# Altium footprint library RF_Mini-Circuits.PcbLib: 31 footprints (part 2 of 2)
Each footprint in its own frame and in the unit in brackets; x right, y up, seen from the top. Pads: shape width x height; smd on the part's side, far side on the other; paste and mask are expansions set on the pad; w line width, h text height; cw(c..) or ccw(c..) is an arc to the next point about the centre after c.
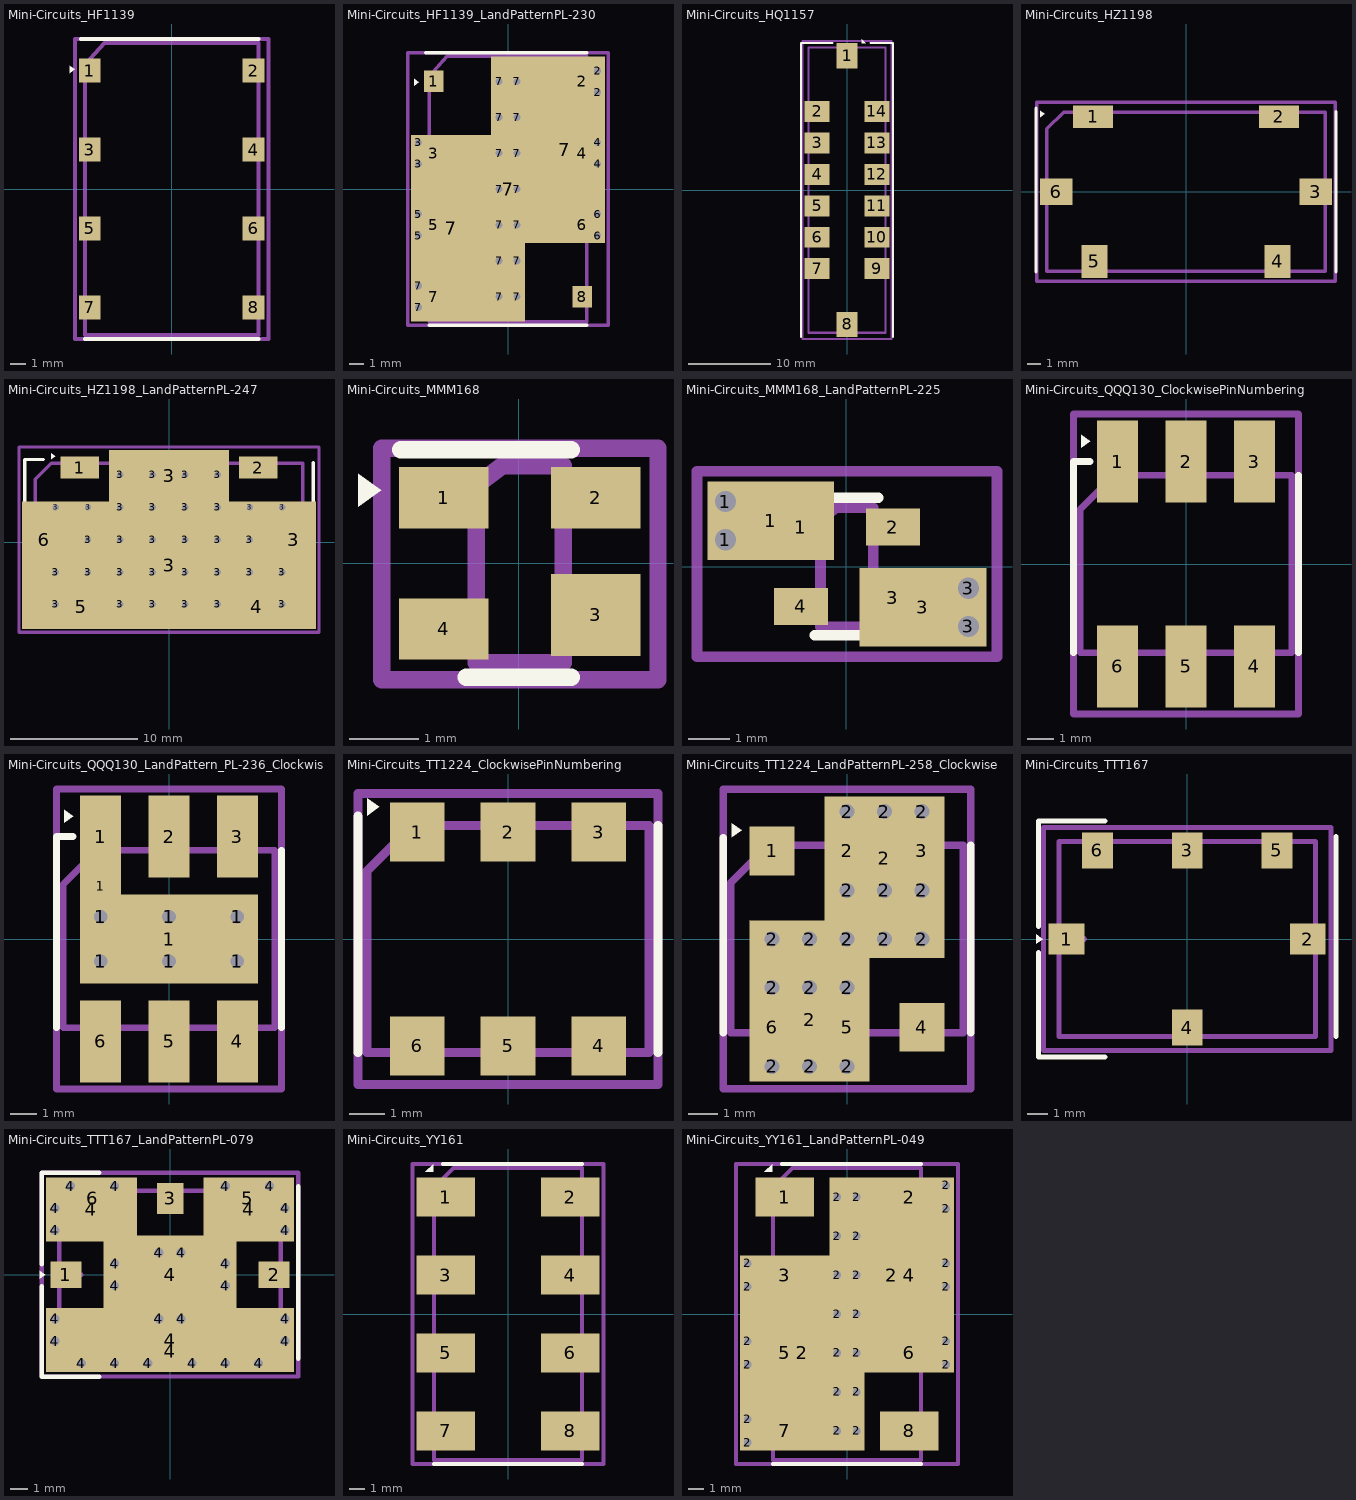
[diagram p1: the footprints below, top view; thin cyan lines are the x and y axes]

## Mini-Circuits_HF1139 [mil]
pads (8):
  rect 55x60 smd: 1(-207.5,300) 2(207.5,300) 3(-207.5,100) 4(207.5,100) 5(-207.5,-100) 6(207.5,-100) 7(-207.5,-300) 8(207.5,-300)
F.SilkS:
  region: -245.28,302.76 -258.5,293.31 -258.5,312.2
  lines w10: -230,380 220,380 ; -220,-380 220,-380
F.Fab:
  lines w10: -220,-370 -220,315 -170,370 220,370 220,-370 -220,-370
  text "'.Designator'" at -166.82,-33.08 h39.37
F.CrtYd:
  lines w10: -244.88,-379.92 -244.88,379.92 244.88,379.92 244.88,-379.92 -244.88,-379.92

## Mini-Circuits_HF1139_LandPatternPL-230 [mil]
pads (37):
  rect 55x60 smd: 1(-207.5,300) 2(207.5,300) 3(-207.5,100) 4(207.5,100) 5(-207.5,-100) 6(207.5,-100) 7(-207.5,-300) 8(207.5,-300)
  round 40 hole 20: 2(250,270) 2(250,330) 3(-250,70) 3(-250,130) 4(250,70) 4(250,130) 5(-250,-130) 5(-250,-70) 6(250,-130) 6(250,-70) 7(-250,-330) 7(-250,-270) 7(-25,-300) 7(-25,-200) 7(-25,-100) 7(-25,0) 7(-25,100) 7(-25,200) 7(-25,300) 7(25,-300) 7(25,-200) 7(25,-100) 7(25,0) 7(25,100) 7(25,200) 7(25,300)
  rect 223x520 smd: 7(-158.5,-110) 7(158.5,110)
  rect 94x740 smd: 7(0,0)
F.SilkS:
  region: -248.43,298.03 -261.65,288.58 -261.65,307.48
  lines w10: -230,380 220,380 ; -220,-380 220,-380
F.Fab:
  lines w10: -220,-370 -220,315 -170,370 220,370 220,-370 -220,-370
  text "'.Designator'" at -166.82,-33.08 h39.37
F.CrtYd:
  lines w10: -279.92,-379.92 -279.92,379.92 279.92,379.92 279.92,-379.92 -279.92,-379.92

## Mini-Circuits_HQ1157 [mil]
pads (14):
  rect 100x120 smd: 1(0,640) 8(0,-640)
  rect 120x100 smd: 2(-142.5,375) 3(-142.5,225) 4(-142.5,75) 5(-142.5,-75) 6(-142.5,-225) 7(-142.5,-375) 9(142.5,-375) 10(142.5,-225) 11(142.5,-75) 12(142.5,75) 13(142.5,225) 14(142.5,375)
F.SilkS:
  region: 89.69,700 70,700 70,719.68
  lines w10: -220,-700 -220,700 -70,700 ; 111.02,700.39 220,700 220,-700
F.Fab:
  lines w10: -182.5,-680 -182.5,680 182.5,680 182.5,-680 -182.5,-680
  text "'.Designator'" at 25.21,-159.32 h39.37
F.CrtYd:
  lines w10: -212.2,-709.84 -212.2,709.84 212.2,709.84 212.2,-709.84 -212.2,-709.84

## Mini-Circuits_HZ1198 [mil]
pads (6):
  rect 118x67 smd: 1(-275.5,222.5) 2(275.5,222.5)
  rect 96x78 smd: 3(385,0) 6(-385,0)
  rect 78x98 smd: 4(271.5,-207) 5(-271.5,-207)
F.SilkS:
  region: -419.69,230.71 -432.91,221.26 -432.91,240.16
  lines w10: -445,-238 -445,247 ; 445,-238 445,237
F.Fab:
  lines w10: -413,-236 -413,186 -363,236 413,236 413,-236 -413,-236
  text "'.Designator'" at -159.32,-40.96 h39.37
F.CrtYd:
  lines w10: -442.91,-265.75 -442.91,265.75 442.91,265.75 442.91,-265.75 -442.91,-265.75

## Mini-Circuits_HZ1198_LandPatternPL-247 [mil]
pads (40):
  rect 118x67 smd: 1(-275.5,230.5) 2(275.5,230.5)
  round 40 hole 20: 3(-350,-192) 3(-350,-92) 3(-250,-92) 3(-250,8) 3(-150,-192) 3(-150,-92) 3(-150,8) 3(-150,108) 3(-150,208) 3(-50,-192) 3(-50,-92) 3(-50,8) 3(-50,108) 3(-50,208) 3(50,-192) 3(50,-92) 3(50,8) 3(50,108) 3(50,208) 3(150,-192) 3(150,-92) 3(150,8) 3(150,108) 3(150,208) 3(250,-92) 3(250,8) 3(350,-192) 3(350,-92)
  round 30 hole 20: 3(-350,108) 3(-250,108) 3(250,108) 3(350,108)
  rect 906x394 smd: 3(0,-71)
  rect 369x160 smd: 3(0,205)
  rect 96x78 smd: 3(385,8) 6(-385,8)
  rect 78x98 smd: 4(271.5,-199) 5(-271.5,-199)
F.SilkS:
  region: -350.39,265.75 -363.62,256.3 -363.62,275.2
  lines w10: -445,-230 -445,255 -387.4,255 ; 445,-230 445,245
F.Fab:
  lines w10: -413,-228 -413,194 -363,244 413,244 413,-228 -413,-228
  text "'.Designator'" at -159.32,-32.96 h39.37
F.CrtYd:
  lines w10: -462.99,-277.95 -462.99,293.7 462.99,293.7 462.99,-277.95 -462.99,-277.95

## Mini-Circuits_MMM168 [mil]
pads (4):
  rect 51x35 smd: 1(-43,37.5) 2(44,37.5) 4(-43,-37.5)
  rect 51x47 smd: 3(44,-29.5)
F.SilkS:
  region: -78.74,41.73 -91.97,32.28 -91.97,51.18
  lines w10: -67.5,65 30,65 ; -30,-65 30,-65
F.Fab:
  lines w10: -24.5,-56.75 -24.5,44.5 -9.5,55.75 25.5,55.75 25.5,-56.75 -24.5,-56.75
  text "'.Designator'" at -158.82,-33.58 h39.37
F.CrtYd:
  lines w10: -78.35,-66.54 -78.35,65.75 79.53,65.75 79.53,-66.54 -78.35,-66.54

## Mini-Circuits_MMM168_LandPatternPL-225 [mil]
pads (10):
  round 31.81 hole 20: 1(-114.5,25.5) 1(-114.5,61.5) 3(115.5,-56.5) 3(115.5,-20.5)
  rect 120x74 smd: 1(-71.5,43.5) 3(72.5,-38.5)
  rect 51x35 smd: 1(-43,37.5) 2(44,37.5) 4(-43,-37.5)
  rect 51x47 smd: 3(44,-29.5)
F.SilkS:
  region: -78.74,40.16 -91.97,30.71 -91.97,49.61
  lines w10: -90,65 30,65 ; -30,-65 30,-65
F.Fab:
  lines w10: -24.5,-56.75 -24.5,44.5 -9.5,55.75 25.5,55.75 25.5,-56.75 -24.5,-56.75
  text "'.Designator'" at -158.82,-33.58 h39.37
F.CrtYd:
  lines w10: -141.34,-85.43 -141.34,90.16 142.52,90.16 142.52,-85.43 -141.34,-85.43

## Mini-Circuits_QQQ130_ClockwisePinNumbering [mil]
pads (6):
  rect 60x120 smd: 1(-100,150) 2(0,150) 3(100,150) 4(100,-150) 5(0,-150) 6(-100,-150)
F.SilkS:
  region: -140.55,180 -153.78,170.55 -153.78,189.45
  lines w10: -165,-130 -165,150 -140.55,150 ; 165,-130 165,130
F.Fab:
  lines w10: -155,-130 -155,80 -105,130 155,130 155,-130 -155,-130
  text "'.Designator'" at -159.32,-33.08 h39.37
F.CrtYd:
  lines w10: -164.96,-219.69 -164.96,219.69 164.96,219.69 164.96,-219.69 -164.96,-219.69

## Mini-Circuits_QQQ130_LandPattern_PL-236_ClockwisePinNumbering [mil]
pads (14):
  round 40 hole 20: 1(-100,-32.5) 1(-100,32.5) 1(0,-32.5) 1(0,32.5) 1(100,-32.5) 1(100,32.5)
  rect 60x25 smd: 1(-100,77.5)
  rect 60x120 smd: 1(-100,150) 2(0,150) 3(100,150) 4(100,-150) 5(0,-150) 6(-100,-150)
  rect 260x131 smd: 1(0,0)
F.SilkS:
  region: -140.55,180 -153.78,170.55 -153.78,189.45
  lines w10: -165,-130 -165,150 -140.55,150 ; 165,-130 165,130
F.Fab:
  lines w10: -155,-130 -155,80 -105,130 155,130 155,-130 -155,-130
  text "'.Designator'" at -159.32,-33.08 h39.37
F.CrtYd:
  lines w10: -164.96,-219.69 -164.96,219.69 164.96,219.69 164.96,-219.69 -164.96,-219.69

## Mini-Circuits_TT1224_ClockwisePinNumbering [mil]
pads (6):
  rect 60x65 smd: 1(-100,117.5) 2(0,117.5) 3(100,117.5) 4(100,-117.5) 5(0,-117.5) 6(-100,-117.5)
F.SilkS:
  region: -141.73,145.28 -154.96,135.83 -154.96,154.72
  lines w10: -165,-125 -165,135 ; 165,-125 165,125
F.Fab:
  lines w10: -155,-125 -155,75 -105,125 155,125 155,-125 -155,-125
  text "'.Designator'" at -159.32,-33.08 h39.37
F.CrtYd:
  lines w10: -164.96,-159.84 -164.96,159.84 164.96,159.84 164.96,-159.84 -164.96,-159.84

## Mini-Circuits_TT1224_LandPatternPL-258_ClockwisePinNumbering [mil]
pads (26):
  rect 60x65 smd: 1(-100,117.5) 2(0,117.5) 3(100,117.5) 4(100,-117.5) 5(0,-117.5) 6(-100,-117.5)
  round 40 hole 20: 2(-100,-170) 2(-100,-65) 2(-100,0) 2(-50,-170) 2(-50,-65) 2(-50,0) 2(0,-170) 2(0,-65) 2(0,0) 2(0,65) 2(0,170) 2(50,0) 2(50,65) 2(50,170) 2(100,0) 2(100,65) 2(100,170)
  rect 160x165 smd: 2(-50,-107.5) 2(50,107.5)
  rect 260x50 smd: 2(0,0)
F.SilkS:
  region: -140.55,145 -153.78,135.55 -153.78,154.45
  lines w10: -165,-125 -165,135 ; 165,-125 165,125
F.Fab:
  lines w10: -155,-125 -155,75 -105,125 155,125 155,-125 -155,-125
  text "'.Designator'" at -159.32,-33.08 h39.37
F.CrtYd:
  lines w10: -164.96,-200 -164.96,200 164.96,200 164.96,-200 -164.96,-200

## Mini-Circuits_TTT167 [mil]
pads (6):
  rect 70x60 smd: 1(-235,0) 2(235,0)
  rect 60x70 smd: 3(0,172.5) 4(0,-172.5) 5(175,172.5) 6(-175,172.5)
F.SilkS:
  region: -281.5,0 -294.72,-9.45 -294.72,9.45
  lines w10: -290,-26.38 -290,-230 -160,-230 ; -290,24.02 -290,230 -160,230 ; 290,-190 290,200
F.Fab:
  lines w10: -250,-25 -200,0 -250,25 ; -250,-190 -250,190 250,190 250,-190 -250,-190
  text "'.Designator'" at -159.32,-33.08 h39.37
F.CrtYd:
  lines w10: -279.92,-217.32 -279.92,217.32 279.92,217.32 279.92,-217.32 -279.92,-217.32

## Mini-Circuits_TTT167_LandPatternPL-079 [mil]
pads (36):
  rect 70x60 smd: 1(-235,0) 2(235,0)
  rect 60x70 smd: 3(0,172.5) 4(0,-172.5) 5(175,172.5) 6(-175,172.5)
  round 40 hole 20: 4(-260,-150) 4(-260,-100) 4(-260,100) 4(-260,150) 4(-225,200) 4(-200,-200) 4(-125,-200) 4(-125,-25) 4(-125,25) 4(-125,200) 4(-50,-200) 4(-25,-100) 4(-25,50) 4(25,-100) 4(25,50) 4(50,-200) 4(125,-200) 4(125,-25) 4(125,25) 4(125,200) 4(200,-200) 4(225,200) 4(260,-150) 4(260,-100) 4(260,100) 4(260,150)
  rect 205x145 smd: 4(-177.5,147.5) 4(177.5,147.5)
  rect 560x145 smd: 4(0,-147.5)
  rect 300x176 smd: 4(0,0)
F.SilkS:
  region: -281.5,0 -294.72,-9.45 -294.72,9.45
  lines w10: -290,-26.38 -290,-230 -160,-230 ; -290,24.02 -290,230 -160,230 ; 290,-190 290,200
F.Fab:
  lines w10: -250,-25 -200,0 -250,25 ; -250,-190 -250,190 250,190 250,-190 -250,-190
  text "'.Designator'" at -159.32,-33.08 h39.37
F.CrtYd:
  lines w10: -289.76,-229.92 -289.76,229.92 289.76,229.92 289.76,-229.92 -289.76,-229.92

## Mini-Circuits_YY161 [mil]
pads (8):
  rect 150x100 smd: 1(-160,300) 2(160,300) 3(-160,100) 4(160,100) 5(-160,-100) 6(160,-100) 7(-160,-300) 8(160,-300)
F.SilkS:
  region: -192.52,364.96 -212.2,364.96 -192.52,384.65
  lines w10: -190,-385 190,-385 ; -167.32,385.04 190,385
F.Fab:
  lines w10: -190,-375 -190,325 -140,375 190,375 190,-375 -190,-375
  text "'.Designator'" at -159.32,-33.08 h39.37
F.CrtYd:
  lines w10: -244.88,-385.04 -244.88,385.04 244.88,385.04 244.88,-385.04 -244.88,-385.04

## Mini-Circuits_YY161_LandPatternPL-049 [mil]
pads (36):
  rect 150x100 smd: 1(-160,300) 2(160,300) 3(-160,100) 4(160,100) 5(-160,-100) 6(160,-100) 7(-160,-300) 8(160,-300)
  round 40 hole 20: 2(-255,-330) 2(-255,-270) 2(-255,-130) 2(-255,-70) 2(-255,70) 2(-255,130) 2(-25,-300) 2(-25,-200) 2(-25,-100) 2(-25,0) 2(-25,100) 2(-25,200) 2(-25,300) 2(25,-300) 2(25,-200) 2(25,-100) 2(25,0) 2(25,100) 2(25,200) 2(25,300) 2(255,-130) 2(255,-70) 2(255,70) 2(255,130) 2(255,270) 2(255,330)
  rect 320x500 smd: 2(-115,-100) 2(115,100)
F.SilkS:
  region: -192.52,364.96 -212.2,364.96 -192.52,384.65
  lines w10: -190,-385 190,-385 ; -167.32,385.04 190,385
F.Fab:
  lines w10: -190,-375 -190,325 -140,375 190,375 190,-375 -190,-375
  text "'.Designator'" at -159.32,-33.08 h39.37
F.CrtYd:
  lines w10: -285.04,-385.04 -285.04,385.04 285.04,385.04 285.04,-385.04 -285.04,-385.04